# Altium schematic symbol library WCAP-ATLI.SchLib: 162 symbols (part 1 of 4)
Pins are listed as number, name and electrical type; pins without a type are passive.

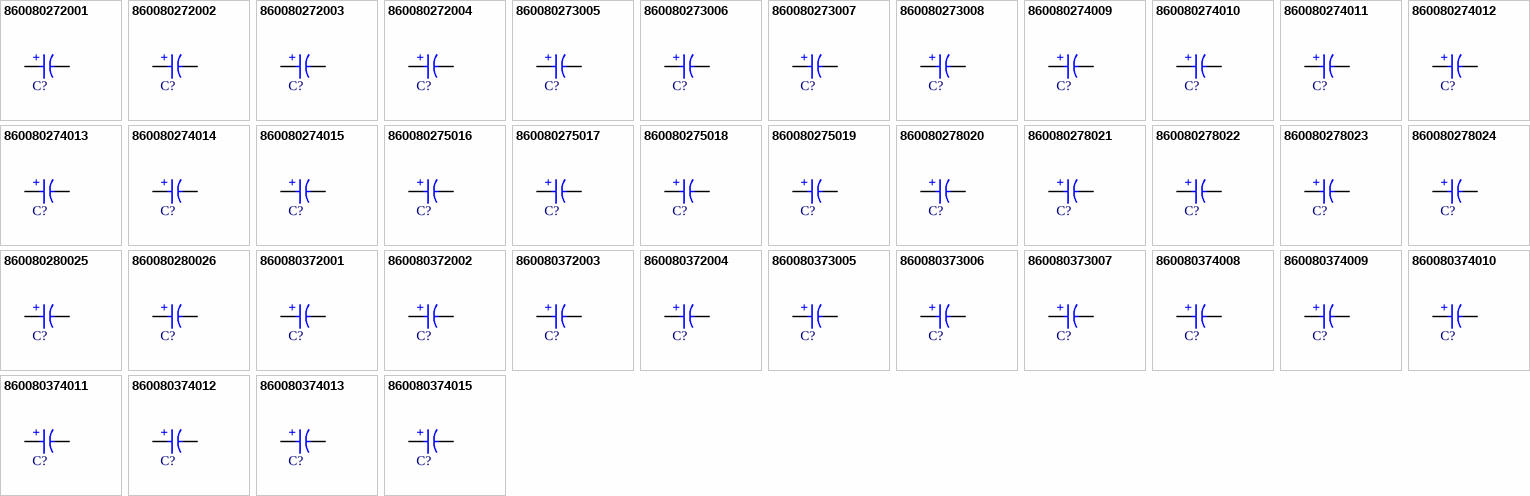
[diagram p0: symbols 860080272001 to 860080374015]

## 860080272001
designator C?, comment 68µF  (value not drawn)
WCAP-ATLI Aluminum Electrolytic Capacitor, Radial, THT, D5 x H11mm, 68µF, 10V; Manufacturer Part Number: 860080272001; Manufacturer: Wurth Elektronik; Capacitance Tolerance: +/-20%; Dissipation Factor: 14%; Endurance: 2000h; Leakage Current: 6.8µA; Ripple Current: 190mA; Technical Reference: ATEC110680M010DSPA3B000; Category: Aluminum Electrolytic Capacitors; Match Code: WCAP-ATLI; ComponentLink1Description: Website Link; ComponentLink1URL: https://www.we-online.com/redexpert/article/860080272001?ad; ComponentLink2Description: Datasheet Link; ComponentLink2URL: https://www.we-online.com/redexpert/spec/860080272001?ad; Mount: Through Hole; Operating Temperature Max: 105°C; Operating Temperature Min: -55°C; Packaging: Ammo Pack; Height: 11mm; Diameter: 5mm; Capacitance: 68µF; Rated Voltage (DC): 10V
footprint WCAP-ATLI_D5H11
simulation model 860080272001_68uF
pins: 1 P, 2 N
text: +

## 860080272002
designator C?, comment 82µF  (value not drawn)
WCAP-ATLI Aluminum Electrolytic Capacitor, Radial, THT, D5 x H11mm, 82µF, 10V; Manufacturer Part Number: 860080272002; Manufacturer: Wurth Elektronik; Capacitance Tolerance: +/-20%; Dissipation Factor: 14%; Endurance: 2000h; Leakage Current: 8.2µA; Ripple Current: 210mA; Technical Reference: ATEC110820M010DSPA3B000; Category: Aluminum Electrolytic Capacitors; Match Code: WCAP-ATLI; ComponentLink1Description: Website Link; ComponentLink1URL: https://www.we-online.com/redexpert/article/860080272002?ad; ComponentLink2Description: Datasheet Link; ComponentLink2URL: https://www.we-online.com/redexpert/spec/860080272002?ad; Mount: Through Hole; Operating Temperature Max: 105°C; Operating Temperature Min: -55°C; Packaging: Ammo Pack; Height: 11mm; Diameter: 5mm; Capacitance: 82µF; Rated Voltage (DC): 10V
footprint WCAP-ATLI_D5H11
simulation model 860080272002_82uF
pins: 1 P, 2 N
text: +

## 860080272003
designator C?, comment 100µF  (value not drawn)
WCAP-ATLI Aluminum Electrolytic Capacitor, Radial, THT, D5 x H11mm, 100µF, 10V; Manufacturer Part Number: 860080272003; Manufacturer: Wurth Elektronik; Capacitance Tolerance: +/-20%; Dissipation Factor: 14%; Endurance: 2000h; Leakage Current: 10µA; Ripple Current: 242mA; Technical Reference: ATEC110101M010DSPA3B000; Category: Aluminum Electrolytic Capacitors; Match Code: WCAP-ATLI; ComponentLink1Description: Website Link; ComponentLink1URL: https://www.we-online.com/redexpert/article/860080272003?ad; ComponentLink2Description: Datasheet Link; ComponentLink2URL: https://www.we-online.com/redexpert/spec/860080272003?ad; Mount: Through Hole; Operating Temperature Max: 105°C; Operating Temperature Min: -55°C; Packaging: Ammo Pack; Height: 11mm; Diameter: 5mm; Capacitance: 100µF; Rated Voltage (DC): 10V
footprint WCAP-ATLI_D5H11
simulation model 860080272003_100uF
pins: 1 P, 2 N
text: +

## 860080272004
designator C?, comment 120µF  (value not drawn)
WCAP-ATLI Aluminum Electrolytic Capacitor, Radial, THT, D5 x H11mm, 120µF, 10V; Manufacturer Part Number: 860080272004; Manufacturer: Wurth Elektronik; Capacitance Tolerance: +/-20%; Dissipation Factor: 14%; Endurance: 2000h; Leakage Current: 12µA; Ripple Current: 261mA; Technical Reference: ATEC110121M010DSPA3B000; Category: Aluminum Electrolytic Capacitors; Match Code: WCAP-ATLI; ComponentLink1Description: Website Link; ComponentLink1URL: https://www.we-online.com/redexpert/article/860080272004?ad; ComponentLink2Description: Datasheet Link; ComponentLink2URL: https://www.we-online.com/redexpert/spec/860080272004?ad; Mount: Through Hole; Operating Temperature Max: 105°C; Operating Temperature Min: -55°C; Packaging: Ammo Pack; Height: 11mm; Diameter: 5mm; Capacitance: 120µF; Rated Voltage (DC): 10V
footprint WCAP-ATLI_D5H11
simulation model 860080272004_120uF
pins: 1 P, 2 N
text: +

## 860080273005
designator C?, comment 150µF  (value not drawn)
WCAP-ATLI Aluminum Electrolytic Capacitor, Radial, THT, D6.3 x H11mm, 150µF, 10V; Manufacturer Part Number: 860080273005; Manufacturer: Wurth Elektronik; Capacitance Tolerance: +/-20%; Dissipation Factor: 14%; Endurance: 2000h; Leakage Current: 15µA; Ripple Current: 300mA; Technical Reference: ATED110151M010DSPA4B000; Category: Aluminum Electrolytic Capacitors; Match Code: WCAP-ATLI; ComponentLink1Description: Website Link; ComponentLink1URL: https://www.we-online.com/redexpert/article/860080273005?ad; ComponentLink2Description: Datasheet Link; ComponentLink2URL: https://www.we-online.com/redexpert/spec/860080273005?ad; Mount: Through Hole; Operating Temperature Max: 105°C; Operating Temperature Min: -55°C; Packaging: Ammo Pack; Height: 11mm; Diameter: 6.3mm; Capacitance: 150µF; Rated Voltage (DC): 10V
footprint WCAP-ATLI_D6.3H11
simulation model 860080273005_150uF
pins: 1 P, 2 N
text: +

## 860080273006
designator C?, comment 180µF  (value not drawn)
WCAP-ATLI Aluminum Electrolytic Capacitor, Radial, THT, D6.3 x H11mm, 180µF, 10V; Manufacturer Part Number: 860080273006; Manufacturer: Wurth Elektronik; Capacitance Tolerance: +/-20%; Dissipation Factor: 14%; Endurance: 2000h; Leakage Current: 18µA; Ripple Current: 350mA; Technical Reference: ATED110181M010DSPA4B000; Category: Aluminum Electrolytic Capacitors; Match Code: WCAP-ATLI; ComponentLink1Description: Website Link; ComponentLink1URL: https://www.we-online.com/redexpert/article/860080273006?ad; ComponentLink2Description: Datasheet Link; ComponentLink2URL: https://www.we-online.com/redexpert/spec/860080273006?ad; Mount: Through Hole; Operating Temperature Max: 105°C; Operating Temperature Min: -55°C; Packaging: Ammo Pack; Height: 11mm; Diameter: 6.3mm; Capacitance: 180µF; Rated Voltage (DC): 10V
footprint WCAP-ATLI_D6.3H11
simulation model 860080273006_180uF
pins: 1 P, 2 N
text: +

## 860080273007
designator C?, comment 220µF  (value not drawn)
WCAP-ATLI Aluminum Electrolytic Capacitor, Radial, THT, D6.3 x H11mm, 220µF, 10V; Manufacturer Part Number: 860080273007; Manufacturer: Wurth Elektronik; Capacitance Tolerance: +/-20%; Dissipation Factor: 14%; Endurance: 2000h; Leakage Current: 22µA; Ripple Current: 390mA; Technical Reference: ATED110221M010DSPA4B000; Category: Aluminum Electrolytic Capacitors; Match Code: WCAP-ATLI; ComponentLink1Description: Website Link; ComponentLink1URL: https://www.we-online.com/redexpert/article/860080273007?ad; ComponentLink2Description: Datasheet Link; ComponentLink2URL: https://www.we-online.com/redexpert/spec/860080273007?ad; Mount: Through Hole; Operating Temperature Max: 105°C; Operating Temperature Min: -55°C; Packaging: Ammo Pack; Height: 11mm; Diameter: 6.3mm; Capacitance: 220µF; Rated Voltage (DC): 10V
footprint WCAP-ATLI_D6.3H11
simulation model 860080273007_220uF
pins: 1 P, 2 N
text: +

## 860080273008
designator C?, comment 270µF  (value not drawn)
WCAP-ATLI Aluminum Electrolytic Capacitor, Radial, THT, D6.3 x H15mm, 270µF, 10V; Manufacturer Part Number: 860080273008; Manufacturer: Wurth Elektronik; Capacitance Tolerance: +/-20%; Dissipation Factor: 14%; Endurance: 2000h; Leakage Current: 27µA; Ripple Current: 460mA; Technical Reference: ATED150271M010DSPA4B000; Category: Aluminum Electrolytic Capacitors; Match Code: WCAP-ATLI; ComponentLink1Description: Website Link; ComponentLink1URL: https://www.we-online.com/redexpert/article/860080273008?ad; ComponentLink2Description: Datasheet Link; ComponentLink2URL: https://www.we-online.com/redexpert/spec/860080273008?ad; Mount: Through Hole; Operating Temperature Max: 105°C; Operating Temperature Min: -55°C; Packaging: Ammo Pack; Height: 15mm; Diameter: 6.3mm; Capacitance: 270µF; Rated Voltage (DC): 10V
footprint WCAP-ATLI_D6.3H15
simulation model 860080273008_270uF
pins: 1 P, 2 N
text: +

## 860080274009
designator C?, comment 330µF  (value not drawn)
WCAP-ATLI Aluminum Electrolytic Capacitor, Radial, THT, D8 x H11.5mm, 330µF, 10V; Manufacturer Part Number: 860080274009; Manufacturer: Wurth Elektronik; Capacitance Tolerance: +/-20%; Dissipation Factor: 14%; Endurance: 3000h; Leakage Current: 33µA; Ripple Current: 540mA; Technical Reference: ATEE115331M010DSPA7C000; Category: Aluminum Electrolytic Capacitors; Match Code: WCAP-ATLI; ComponentLink1Description: Website Link; ComponentLink1URL: https://www.we-online.com/redexpert/article/860080274009?ad; ComponentLink2Description: Datasheet Link; ComponentLink2URL: https://www.we-online.com/redexpert/spec/860080274009?ad; Mount: Through Hole; Operating Temperature Max: 105°C; Operating Temperature Min: -55°C; Packaging: Ammo Pack; Height: 11.5mm; Diameter: 8mm; Capacitance: 330µF; Rated Voltage (DC): 10V
footprint WCAP-ATLI_D8H11.5
simulation model 860080274009_330uF
pins: 1 P, 2 N
text: +

## 860080274010
designator C?, comment 390µF  (value not drawn)
WCAP-ATLI Aluminum Electrolytic Capacitor, Radial, THT, D8 x H11.5mm, 390µF, 10V; Manufacturer Part Number: 860080274010; Manufacturer: Wurth Elektronik; Capacitance Tolerance: +/-20%; Dissipation Factor: 14%; Endurance: 3000h; Leakage Current: 39µA; Ripple Current: 620mA; Technical Reference: ATEE115391M010DSPA7C000; Category: Aluminum Electrolytic Capacitors; Match Code: WCAP-ATLI; ComponentLink1Description: Website Link; ComponentLink1URL: https://www.we-online.com/redexpert/article/860080274010?ad; ComponentLink2Description: Datasheet Link; ComponentLink2URL: https://www.we-online.com/redexpert/spec/860080274010?ad; Mount: Through Hole; Operating Temperature Max: 105°C; Operating Temperature Min: -55°C; Packaging: Ammo Pack; Height: 11.5mm; Diameter: 8mm; Capacitance: 390µF; Rated Voltage (DC): 10V
footprint WCAP-ATLI_D8H11.5
simulation model 860080274010_390uF
pins: 1 P, 2 N
text: +

## 860080274011
designator C?, comment 470µF  (value not drawn)
WCAP-ATLI Aluminum Electrolytic Capacitor, Radial, THT, D8 x H11.5mm, 470µF, 10V; Manufacturer Part Number: 860080274011; Manufacturer: Wurth Elektronik; Capacitance Tolerance: +/-20%; Dissipation Factor: 14%; Endurance: 3000h; Leakage Current: 47µA; Ripple Current: 750mA; Technical Reference: ATEE115471M010DSPA7C000; Category: Aluminum Electrolytic Capacitors; Match Code: WCAP-ATLI; ComponentLink1Description: Website Link; ComponentLink1URL: https://www.we-online.com/redexpert/article/860080274011?ad; ComponentLink2Description: Datasheet Link; ComponentLink2URL: https://www.we-online.com/redexpert/spec/860080274011?ad; Mount: Through Hole; Operating Temperature Max: 105°C; Operating Temperature Min: -55°C; Packaging: Ammo Pack; Height: 11.5mm; Diameter: 8mm; Capacitance: 470µF; Rated Voltage (DC): 10V
footprint WCAP-ATLI_D8H11.5
simulation model 860080274011_470uF
pins: 1 P, 2 N
text: +

## 860080274012
designator C?, comment 560µF  (value not drawn)
WCAP-ATLI Aluminum Electrolytic Capacitor, Radial, THT, D8 x H16mm, 560µF, 10V; Manufacturer Part Number: 860080274012; Manufacturer: Wurth Elektronik; Capacitance Tolerance: +/-20%; Dissipation Factor: 14%; Endurance: 3000h; Leakage Current: 56µA; Ripple Current: 870mA; Technical Reference: ATEE160561M010DSPA7C000; Category: Aluminum Electrolytic Capacitors; Match Code: WCAP-ATLI; ComponentLink1Description: Website Link; ComponentLink1URL: https://www.we-online.com/redexpert/article/860080274012?ad; ComponentLink2Description: Datasheet Link; ComponentLink2URL: https://www.we-online.com/redexpert/spec/860080274012?ad; Mount: Through Hole; Operating Temperature Max: 105°C; Operating Temperature Min: -55°C; Packaging: Ammo Pack; Height: 16mm; Diameter: 8mm; Capacitance: 560µF; Rated Voltage (DC): 10V
footprint WCAP-ATLI_D8H16
simulation model 860080274012_560uF
pins: 1 P, 2 N
text: +

## 860080274013
designator C?, comment 680µF  (value not drawn)
WCAP-ATLI Aluminum Electrolytic Capacitor, Radial, THT, D8 x H20mm, 680µF, 10V; Manufacturer Part Number: 860080274013; Manufacturer: Wurth Elektronik; Capacitance Tolerance: +/-20%; Dissipation Factor: 14%; Endurance: 3000h; Leakage Current: 68µA; Ripple Current: 1010mA; Technical Reference: ATEE200681M010DSPA7C000; Category: Aluminum Electrolytic Capacitors; Match Code: WCAP-ATLI; ComponentLink1Description: Website Link; ComponentLink1URL: https://www.we-online.com/redexpert/article/860080274013?ad; ComponentLink2Description: Datasheet Link; ComponentLink2URL: https://www.we-online.com/redexpert/spec/860080274013?ad; Mount: Through Hole; Operating Temperature Max: 105°C; Operating Temperature Min: -55°C; Packaging: Ammo Pack; Height: 20mm; Diameter: 8mm; Capacitance: 680µF; Rated Voltage (DC): 10V
footprint WCAP-ATLI_D8H20
simulation model 860080274013_680uF
pins: 1 P, 2 N
text: +

## 860080274014
designator C?, comment 820µF  (value not drawn)
WCAP-ATLI Aluminum Electrolytic Capacitor, Radial, THT, D8 x H20mm, 820µF, 10V; Manufacturer Part Number: 860080274014; Manufacturer: Wurth Elektronik; Capacitance Tolerance: +/-20%; Dissipation Factor: 14%; Endurance: 3000h; Leakage Current: 82µA; Ripple Current: 1030mA; Technical Reference: ATEE200821M010DSPA7C000; Category: Aluminum Electrolytic Capacitors; Match Code: WCAP-ATLI; ComponentLink1Description: Website Link; ComponentLink1URL: https://www.we-online.com/redexpert/article/860080274014?ad; ComponentLink2Description: Datasheet Link; ComponentLink2URL: https://www.we-online.com/redexpert/spec/860080274014?ad; Mount: Through Hole; Operating Temperature Max: 105°C; Operating Temperature Min: -55°C; Packaging: Ammo Pack; Height: 20mm; Diameter: 8mm; Capacitance: 820µF; Rated Voltage (DC): 10V
footprint WCAP-ATLI_D8H20
simulation model 860080274014_820uF
pins: 1 P, 2 N
text: +

## 860080274015
designator C?, comment 1000µF  (value not drawn)
WCAP-ATLI Aluminum Electrolytic Capacitor, Radial, THT, D8 x H20mm, 1000µF, 10V; Manufacturer Part Number: 860080274015; Manufacturer: Wurth Elektronik; Capacitance Tolerance: +/-20%; Dissipation Factor: 14%; Endurance: 3000h; Leakage Current: 100µA; Ripple Current: 1220mA; Technical Reference: ATEE200102M010DSPA7C000; Category: Aluminum Electrolytic Capacitors; Match Code: WCAP-ATLI; ComponentLink1Description: Website Link; ComponentLink1URL: https://www.we-online.com/redexpert/article/860080274015?ad; ComponentLink2Description: Datasheet Link; ComponentLink2URL: https://www.we-online.com/redexpert/spec/860080274015?ad; Mount: Through Hole; Operating Temperature Max: 105°C; Operating Temperature Min: -55°C; Packaging: Ammo Pack; Height: 20mm; Diameter: 8mm; Capacitance: 1000µF; Rated Voltage (DC): 10V
footprint WCAP-ATLI_D8H20
simulation model 860080274015_1mF
pins: 1 P, 2 N
text: +

## 860080275016
designator C?, comment 1000µF  (value not drawn)
WCAP-ATLI Aluminum Electrolytic Capacitor, Radial, THT, D10 x H16mm, 1000µF, 10V; Manufacturer Part Number: 860080275016; Manufacturer: Wurth Elektronik; Capacitance Tolerance: +/-20%; Dissipation Factor: 14%; Endurance: 5000h; Leakage Current: 100µA; Ripple Current: 1400mA; Technical Reference: ATEF160102M010DSPAAE000; Category: Aluminum Electrolytic Capacitors; Match Code: WCAP-ATLI; ComponentLink1Description: Website Link; ComponentLink1URL: https://www.we-online.com/redexpert/article/860080275016?ad; ComponentLink2Description: Datasheet Link; ComponentLink2URL: https://www.we-online.com/redexpert/spec/860080275016?ad; Mount: Through Hole; Operating Temperature Max: 105°C; Operating Temperature Min: -55°C; Packaging: Ammo Pack; Height: 16mm; Diameter: 10mm; Capacitance: 1000µF; Rated Voltage (DC): 10V
footprint WCAP-ATLI_D10H16
simulation model 860080275016_1mF
pins: 1 P, 2 N
text: +

## 860080275017
designator C?, comment 1200µF  (value not drawn)
WCAP-ATLI Aluminum Electrolytic Capacitor, Radial, THT, D10 x H20mm, 1200µF, 10V; Manufacturer Part Number: 860080275017; Manufacturer: Wurth Elektronik; Capacitance Tolerance: +/-20%; Dissipation Factor: 14%; Endurance: 5000h; Leakage Current: 120µA; Ripple Current: 1560mA; Technical Reference: ATEF200122M010DSPAAE000; Category: Aluminum Electrolytic Capacitors; Match Code: WCAP-ATLI; ComponentLink1Description: Website Link; ComponentLink1URL: https://www.we-online.com/redexpert/article/860080275017?ad; ComponentLink2Description: Datasheet Link; ComponentLink2URL: https://www.we-online.com/redexpert/spec/860080275017?ad; Mount: Through Hole; Operating Temperature Max: 105°C; Operating Temperature Min: -55°C; Packaging: Ammo Pack; Height: 20mm; Diameter: 10mm; Capacitance: 1200µF; Rated Voltage (DC): 10V
footprint WCAP-ATLI_D10H20
simulation model 860080275017_1.2mF
pins: 1 P, 2 N
text: +

## 860080275018
designator C?, comment 1500µF  (value not drawn)
WCAP-ATLI Aluminum Electrolytic Capacitor, Radial, THT, D10 x H20mm, 1500µF, 10V; Manufacturer Part Number: 860080275018; Manufacturer: Wurth Elektronik; Capacitance Tolerance: +/-20%; Dissipation Factor: 14%; Endurance: 5000h; Leakage Current: 150µA; Ripple Current: 1670mA; Technical Reference: ATEF200152M010DSPAAE000; Category: Aluminum Electrolytic Capacitors; Match Code: WCAP-ATLI; ComponentLink1Description: Website Link; ComponentLink1URL: https://www.we-online.com/redexpert/article/860080275018?ad; ComponentLink2Description: Datasheet Link; ComponentLink2URL: https://www.we-online.com/redexpert/spec/860080275018?ad; Mount: Through Hole; Operating Temperature Max: 105°C; Operating Temperature Min: -55°C; Packaging: Ammo Pack; Height: 20mm; Diameter: 10mm; Capacitance: 1500µF; Rated Voltage (DC): 10V
footprint WCAP-ATLI_D10H20
simulation model 860080275018_1.5mF
pins: 1 P, 2 N
text: +

## 860080275019
designator C?, comment 1800µF  (value not drawn)
WCAP-ATLI Aluminum Electrolytic Capacitor, Radial, THT, D10 x H25mm, 1800µF, 10V; Manufacturer Part Number: 860080275019; Manufacturer: Wurth Elektronik; Capacitance Tolerance: +/-20%; Dissipation Factor: 14%; Endurance: 5000h; Leakage Current: 180µA; Ripple Current: 2000mA; Technical Reference: ATEF250182M010DSPAAE000; Category: Aluminum Electrolytic Capacitors; Match Code: WCAP-ATLI; ComponentLink1Description: Website Link; ComponentLink1URL: https://www.we-online.com/redexpert/article/860080275019?ad; ComponentLink2Description: Datasheet Link; ComponentLink2URL: https://www.we-online.com/redexpert/spec/860080275019?ad; Mount: Through Hole; Operating Temperature Max: 105°C; Operating Temperature Min: -55°C; Packaging: Ammo Pack; Height: 25mm; Diameter: 10mm; Capacitance: 1800µF; Rated Voltage (DC): 10V
footprint WCAP-ATLI_D10H25
simulation model 860080275019_1.8mF
pins: 1 P, 2 N
text: +

## 860080278020
designator C?, comment 2200µF  (value not drawn)
WCAP-ATLI Aluminum Electrolytic Capacitor, Radial, THT, D13 x H20mm, 2200µF, 10V; Manufacturer Part Number: 860080278020; Manufacturer: Wurth Elektronik; Capacitance Tolerance: +/-20%; Dissipation Factor: 14%; Endurance: 5000h; Leakage Current: 220µA; Ripple Current: 2370mA; Technical Reference: ATEI200222M010DSPACE000; Category: Aluminum Electrolytic Capacitors; Match Code: WCAP-ATLI; ComponentLink1Description: Website Link; ComponentLink1URL: https://www.we-online.com/redexpert/article/860080278020?ad; ComponentLink2Description: Datasheet Link; ComponentLink2URL: https://www.we-online.com/redexpert/spec/860080278020?ad; Mount: Through Hole; Operating Temperature Max: 105°C; Operating Temperature Min: -55°C; Packaging: Ammo Pack; Height: 20mm; Diameter: 13mm; Capacitance: 2200µF; Rated Voltage (DC): 10V
footprint WCAP-ATLI_D13H20
simulation model 860080278020_2.2mF
pins: 1 P, 2 N
text: +

## 860080278021
designator C?, comment 2700µF  (value not drawn)
WCAP-ATLI Aluminum Electrolytic Capacitor, Radial, THT, D13 x H20mm, 2700µF, 10V; Manufacturer Part Number: 860080278021; Manufacturer: Wurth Elektronik; Capacitance Tolerance: +/-20%; Dissipation Factor: 14%; Endurance: 5000h; Leakage Current: 270µA; Ripple Current: 2400mA; Technical Reference: ATEI200272M010DSPACE000; Category: Aluminum Electrolytic Capacitors; Match Code: WCAP-ATLI; ComponentLink1Description: Website Link; ComponentLink1URL: https://www.we-online.com/redexpert/article/860080278021?ad; ComponentLink2Description: Datasheet Link; ComponentLink2URL: https://www.we-online.com/redexpert/spec/860080278021?ad; Mount: Through Hole; Operating Temperature Max: 105°C; Operating Temperature Min: -55°C; Packaging: Ammo Pack; Height: 20mm; Diameter: 13mm; Capacitance: 2700µF; Rated Voltage (DC): 10V
footprint WCAP-ATLI_D13H20
simulation model 860080278021_2.7mF
pins: 1 P, 2 N
text: +

## 860080278022
designator C?, comment 3300µF  (value not drawn)
WCAP-ATLI Aluminum Electrolytic Capacitor, Radial, THT, D13 x H25mm, 3300µF, 10V; Manufacturer Part Number: 860080278022; Manufacturer: Wurth Elektronik; Capacitance Tolerance: +/-20%; Dissipation Factor: 14%; Endurance: 5000h; Leakage Current: 330µA; Ripple Current: 2720mA; Technical Reference: ATEI250332M010DSPACE000; Category: Aluminum Electrolytic Capacitors; Match Code: WCAP-ATLI; ComponentLink1Description: Website Link; ComponentLink1URL: https://www.we-online.com/redexpert/article/860080278022?ad; ComponentLink2Description: Datasheet Link; ComponentLink2URL: https://www.we-online.com/redexpert/spec/860080278022?ad; Mount: Through Hole; Operating Temperature Max: 105°C; Operating Temperature Min: -55°C; Packaging: Ammo Pack; Height: 25mm; Diameter: 13mm; Capacitance: 3300µF; Rated Voltage (DC): 10V
footprint WCAP-ATLI_D13H25
simulation model 860080278022_3.3mF
pins: 1 P, 2 N
text: +

## 860080278023
designator C?, comment 3900µF  (value not drawn)
WCAP-ATLI Aluminum Electrolytic Capacitor, Radial, THT, D13 x H30mm, 3900µF, 10V; Manufacturer Part Number: 860080278023; Manufacturer: Wurth Elektronik; Capacitance Tolerance: +/-20%; Dissipation Factor: 14%; Endurance: 5000h; Leakage Current: 390µA; Ripple Current: 3000mA; Technical Reference: ATEI300392M010DSPACE000; Category: Aluminum Electrolytic Capacitors; Match Code: WCAP-ATLI; ComponentLink1Description: Website Link; ComponentLink1URL: https://www.we-online.com/redexpert/article/860080278023?ad; ComponentLink2Description: Datasheet Link; ComponentLink2URL: https://www.we-online.com/redexpert/spec/860080278023?ad; Mount: Through Hole; Operating Temperature Max: 105°C; Operating Temperature Min: -55°C; Packaging: Ammo Pack; Height: 30mm; Diameter: 13mm; Capacitance: 3900µF; Rated Voltage (DC): 10V
footprint WCAP-ATLI_D13H30
simulation model 860080278023_3.9mF
pins: 1 P, 2 N
text: +

## 860080278024
designator C?, comment 4700µF  (value not drawn)
WCAP-ATLI Aluminum Electrolytic Capacitor, Radial, THT, D13 x H35mm, 4700µF, 10V; Manufacturer Part Number: 860080278024; Manufacturer: Wurth Elektronik; Capacitance Tolerance: +/-20%; Dissipation Factor: 14%; Endurance: 5000h; Leakage Current: 470µA; Ripple Current: 3450mA; Technical Reference: ATEI350472M010DSPABE000; Category: Aluminum Electrolytic Capacitors; Match Code: WCAP-ATLI; ComponentLink1Description: Website Link; ComponentLink1URL: https://www.we-online.com/redexpert/article/860080278024?ad; ComponentLink2Description: Datasheet Link; ComponentLink2URL: https://www.we-online.com/redexpert/spec/860080278024?ad; Mount: Through Hole; Operating Temperature Max: 105°C; Operating Temperature Min: -55°C; Packaging: Ammo Pack; Height: 35mm; Diameter: 13mm; Capacitance: 4700µF; Rated Voltage (DC): 10V
footprint WCAP-ATLI_D13H35
simulation model 860080278024_4.7mF
pins: 1 P, 2 N
text: +

## 860080280025
designator C?, comment 5600µF  (value not drawn)
WCAP-ATLI Aluminum Electrolytic Capacitor, Radial, THT, D16 x H31.5mm, 5600µF, 10V; Manufacturer Part Number: 860080280025; Manufacturer: Wurth Elektronik; Capacitance Tolerance: +/-20%; Dissipation Factor: 14%; Endurance: 5000h; Leakage Current: 560µA; Ripple Current: 3460mA; Technical Reference: ATEK315562M010DSPADE000; Category: Aluminum Electrolytic Capacitors; Match Code: WCAP-ATLI; ComponentLink1Description: Website Link; ComponentLink1URL: https://www.we-online.com/redexpert/article/860080280025?ad; ComponentLink2Description: Datasheet Link; ComponentLink2URL: https://www.we-online.com/redexpert/spec/860080280025?ad; Mount: Through Hole; Operating Temperature Max: 105°C; Operating Temperature Min: -55°C; Packaging: Ammo Pack; Height: 31.5mm; Diameter: 16mm; Capacitance: 5600µF; Rated Voltage (DC): 10V
footprint WCAP-ATLI_D16H31.5
simulation model 860080280025_5.6mF
pins: 1 P, 2 N
text: +

## 860080280026
designator C?, comment 6800µF  (value not drawn)
WCAP-ATLI Aluminum Electrolytic Capacitor, Radial, THT, D16 x H31.5mm, 6800µF, 10V; Manufacturer Part Number: 860080280026; Manufacturer: Wurth Elektronik; Capacitance Tolerance: +/-20%; Dissipation Factor: 14%; Endurance: 5000h; Leakage Current: 680µA; Ripple Current: 3630mA; Technical Reference: ATEK315682M010DSPADE000; Category: Aluminum Electrolytic Capacitors; Match Code: WCAP-ATLI; ComponentLink1Description: Website Link; ComponentLink1URL: https://www.we-online.com/redexpert/article/860080280026?ad; ComponentLink2Description: Datasheet Link; ComponentLink2URL: https://www.we-online.com/redexpert/spec/860080280026?ad; Mount: Through Hole; Operating Temperature Max: 105°C; Operating Temperature Min: -55°C; Packaging: Ammo Pack; Height: 31.5mm; Diameter: 16mm; Capacitance: 6800µF; Rated Voltage (DC): 10V
footprint WCAP-ATLI_D16H31.5
simulation model 860080280026_6.8mF
pins: 1 P, 2 N
text: +

## 860080372001
designator C?, comment 47µF  (value not drawn)
WCAP-ATLI Aluminum Electrolytic Capacitor, Radial, THT, D5 x H11mm, 47µF, 16V; Manufacturer Part Number: 860080372001; Manufacturer: Wurth Elektronik; Capacitance Tolerance: +/-20%; Dissipation Factor: 12%; Endurance: 2000h; Leakage Current: 7.52µA; Ripple Current: 200mA; Technical Reference: ATEC110470M016DSPA3B000; Category: Aluminum Electrolytic Capacitors; Match Code: WCAP-ATLI; ComponentLink1Description: Website Link; ComponentLink1URL: https://www.we-online.com/redexpert/article/860080372001?ad; ComponentLink2Description: Datasheet Link; ComponentLink2URL: https://www.we-online.com/redexpert/spec/860080372001?ad; Mount: Through Hole; Operating Temperature Max: 105°C; Operating Temperature Min: -55°C; Packaging: Ammo Pack; Height: 11mm; Diameter: 5mm; Capacitance: 47µF; Rated Voltage (DC): 16V
footprint WCAP-ATLI_D5H11
simulation model 860080372001_47uF
pins: 1 P, 2 N
text: +

## 860080372002
designator C?, comment 56µF  (value not drawn)
WCAP-ATLI Aluminum Electrolytic Capacitor, Radial, THT, D5 x H11mm, 56µF, 16V; Manufacturer Part Number: 860080372002; Manufacturer: Wurth Elektronik; Capacitance Tolerance: +/-20%; Dissipation Factor: 12%; Endurance: 2000h; Leakage Current: 8.96µA; Ripple Current: 220mA; Technical Reference: ATEC110560M016DSPA3B000; Category: Aluminum Electrolytic Capacitors; Match Code: WCAP-ATLI; ComponentLink1Description: Website Link; ComponentLink1URL: https://www.we-online.com/redexpert/article/860080372002?ad; ComponentLink2Description: Datasheet Link; ComponentLink2URL: https://www.we-online.com/redexpert/spec/860080372002?ad; Mount: Through Hole; Operating Temperature Max: 105°C; Operating Temperature Min: -55°C; Packaging: Ammo Pack; Height: 11mm; Diameter: 5mm; Capacitance: 56µF; Rated Voltage (DC): 16V
footprint WCAP-ATLI_D5H11
simulation model 860080372002_56uF
pins: 1 P, 2 N
text: +

## 860080372003
designator C?, comment 68µF  (value not drawn)
WCAP-ATLI Aluminum Electrolytic Capacitor, Radial, THT, D5 x H11mm, 68µF, 16V; Manufacturer Part Number: 860080372003; Manufacturer: Wurth Elektronik; Capacitance Tolerance: +/-20%; Dissipation Factor: 12%; Endurance: 2000h; Leakage Current: 10.88µA; Ripple Current: 230mA; Technical Reference: ATEC110680M016DSPA3B000; Category: Aluminum Electrolytic Capacitors; Match Code: WCAP-ATLI; ComponentLink1Description: Website Link; ComponentLink1URL: https://www.we-online.com/redexpert/article/860080372003?ad; ComponentLink2Description: Datasheet Link; ComponentLink2URL: https://www.we-online.com/redexpert/spec/860080372003?ad; Mount: Through Hole; Operating Temperature Max: 105°C; Operating Temperature Min: -55°C; Packaging: Ammo Pack; Height: 11mm; Diameter: 5mm; Capacitance: 68µF; Rated Voltage (DC): 16V
footprint WCAP-ATLI_D5H11
simulation model 860080372003_68uF
pins: 1 P, 2 N
text: +

## 860080372004
designator C?, comment 82µF  (value not drawn)
WCAP-ATLI Aluminum Electrolytic Capacitor, Radial, THT, D5 x H11mm, 82µF, 16V; Manufacturer Part Number: 860080372004; Manufacturer: Wurth Elektronik; Capacitance Tolerance: +/-20%; Dissipation Factor: 12%; Endurance: 2000h; Leakage Current: 13.12µA; Ripple Current: 260mA; Technical Reference: ATEC110820M016DSPA3B000; Category: Aluminum Electrolytic Capacitors; Match Code: WCAP-ATLI; ComponentLink1Description: Website Link; ComponentLink1URL: https://www.we-online.com/redexpert/article/860080372004?ad; ComponentLink2Description: Datasheet Link; ComponentLink2URL: https://www.we-online.com/redexpert/spec/860080372004?ad; Mount: Through Hole; Operating Temperature Max: 105°C; Operating Temperature Min: -55°C; Packaging: Ammo Pack; Height: 11mm; Diameter: 5mm; Capacitance: 82µF; Rated Voltage (DC): 16V
footprint WCAP-ATLI_D5H11
simulation model 860080372004_82uF
pins: 1 P, 2 N
text: +

## 860080373005
designator C?, comment 100µF  (value not drawn)
WCAP-ATLI Aluminum Electrolytic Capacitor, Radial, THT, D6.3 x H11mm, 100µF, 16V; Manufacturer Part Number: 860080373005; Manufacturer: Wurth Elektronik; Capacitance Tolerance: +/-20%; Dissipation Factor: 12%; Endurance: 2000h; Leakage Current: 16µA; Ripple Current: 360mA; Technical Reference: ATED110101M016DSPA4B000; Category: Aluminum Electrolytic Capacitors; Match Code: WCAP-ATLI; ComponentLink1Description: Website Link; ComponentLink1URL: https://www.we-online.com/redexpert/article/860080373005?ad; ComponentLink2Description: Datasheet Link; ComponentLink2URL: https://www.we-online.com/redexpert/spec/860080373005?ad; Mount: Through Hole; Operating Temperature Max: 105°C; Operating Temperature Min: -55°C; Packaging: Ammo Pack; Height: 11mm; Diameter: 6.3mm; Capacitance: 100µF; Rated Voltage (DC): 16V
footprint WCAP-ATLI_D6.3H11
simulation model 860080373005_100uF
pins: 1 P, 2 N
text: +

## 860080373006
designator C?, comment 120µF  (value not drawn)
WCAP-ATLI Aluminum Electrolytic Capacitor, Radial, THT, D6.3 x H11mm, 120µF, 16V; Manufacturer Part Number: 860080373006; Manufacturer: Wurth Elektronik; Capacitance Tolerance: +/-20%; Dissipation Factor: 12%; Endurance: 2000h; Leakage Current: 19.2µA; Ripple Current: 365mA; Technical Reference: ATED110121M016DSPA4B000; Category: Aluminum Electrolytic Capacitors; Match Code: WCAP-ATLI; ComponentLink1Description: Website Link; ComponentLink1URL: https://www.we-online.com/redexpert/article/860080373006?ad; ComponentLink2Description: Datasheet Link; ComponentLink2URL: https://www.we-online.com/redexpert/spec/860080373006?ad; Mount: Through Hole; Operating Temperature Max: 105°C; Operating Temperature Min: -55°C; Packaging: Ammo Pack; Height: 11mm; Diameter: 6.3mm; Capacitance: 120µF; Rated Voltage (DC): 16V
footprint WCAP-ATLI_D6.3H11
simulation model 860080373006_120uF
pins: 1 P, 2 N
text: +

## 860080373007
designator C?, comment 150µF  (value not drawn)
WCAP-ATLI Aluminum Electrolytic Capacitor, Radial, THT, D6.3 x H11mm, 150µF, 16V; Manufacturer Part Number: 860080373007; Manufacturer: Wurth Elektronik; Capacitance Tolerance: +/-20%; Dissipation Factor: 12%; Endurance: 2000h; Leakage Current: 24µA; Ripple Current: 385mA; Technical Reference: ATED110151M016DSPA4B000; Category: Aluminum Electrolytic Capacitors; Match Code: WCAP-ATLI; ComponentLink1Description: Website Link; ComponentLink1URL: https://www.we-online.com/redexpert/article/860080373007?ad; ComponentLink2Description: Datasheet Link; ComponentLink2URL: https://www.we-online.com/redexpert/spec/860080373007?ad; Mount: Through Hole; Operating Temperature Max: 105°C; Operating Temperature Min: -55°C; Packaging: Ammo Pack; Height: 11mm; Diameter: 6.3mm; Capacitance: 150µF; Rated Voltage (DC): 16V
footprint WCAP-ATLI_D6.3H11
simulation model 860080373007_150uF
pins: 1 P, 2 N
text: +

## 860080374008
designator C?, comment 180µF  (value not drawn)
WCAP-ATLI Aluminum Electrolytic Capacitor, Radial, THT, D8 x H11.5mm, 180µF, 16V; Manufacturer Part Number: 860080374008; Manufacturer: Wurth Elektronik; Capacitance Tolerance: +/-20%; Dissipation Factor: 12%; Endurance: 3000h; Leakage Current: 28.8µA; Ripple Current: 520mA; Technical Reference: ATEE115181M016DSPA7C000; Category: Aluminum Electrolytic Capacitors; Match Code: WCAP-ATLI; ComponentLink1Description: Website Link; ComponentLink1URL: https://www.we-online.com/redexpert/article/860080374008?ad; ComponentLink2Description: Datasheet Link; ComponentLink2URL: https://www.we-online.com/redexpert/spec/860080374008?ad; Mount: Through Hole; Operating Temperature Max: 105°C; Operating Temperature Min: -55°C; Packaging: Ammo Pack; Height: 11.5mm; Diameter: 8mm; Capacitance: 180µF; Rated Voltage (DC): 16V
footprint WCAP-ATLI_D8H11.5
simulation model 860080374008_180uF
pins: 1 P, 2 N
text: +

## 860080374009
designator C?, comment 220µF  (value not drawn)
WCAP-ATLI Aluminum Electrolytic Capacitor, Radial, THT, D8 x H11.5mm, 220µF, 16V; Manufacturer Part Number: 860080374009; Manufacturer: Wurth Elektronik; Capacitance Tolerance: +/-20%; Dissipation Factor: 12%; Endurance: 3000h; Leakage Current: 35.2µA; Ripple Current: 575mA; Technical Reference: ATEE115221M016DSPA7C000; Category: Aluminum Electrolytic Capacitors; Match Code: WCAP-ATLI; ComponentLink1Description: Website Link; ComponentLink1URL: https://www.we-online.com/redexpert/article/860080374009?ad; ComponentLink2Description: Datasheet Link; ComponentLink2URL: https://www.we-online.com/redexpert/spec/860080374009?ad; Mount: Through Hole; Operating Temperature Max: 105°C; Operating Temperature Min: -55°C; Packaging: Ammo Pack; Height: 11.5mm; Diameter: 8mm; Capacitance: 220µF; Rated Voltage (DC): 16V
footprint WCAP-ATLI_D8H11.5
simulation model 860080374009_220uF
pins: 1 P, 2 N
text: +

## 860080374010
designator C?, comment 270µF  (value not drawn)
WCAP-ATLI Aluminum Electrolytic Capacitor, Radial, THT, D8 x H11.5mm, 270µF, 16V; Manufacturer Part Number: 860080374010; Manufacturer: Wurth Elektronik; Capacitance Tolerance: +/-20%; Dissipation Factor: 12%; Endurance: 3000h; Leakage Current: 43.2µA; Ripple Current: 600mA; Technical Reference: ATEE115271M016DSPA7C000; Category: Aluminum Electrolytic Capacitors; Match Code: WCAP-ATLI; ComponentLink1Description: Website Link; ComponentLink1URL: https://www.we-online.com/redexpert/article/860080374010?ad; ComponentLink2Description: Datasheet Link; ComponentLink2URL: https://www.we-online.com/redexpert/spec/860080374010?ad; Mount: Through Hole; Operating Temperature Max: 105°C; Operating Temperature Min: -55°C; Packaging: Ammo Pack; Height: 11.5mm; Diameter: 8mm; Capacitance: 270µF; Rated Voltage (DC): 16V
footprint WCAP-ATLI_D8H11.5
simulation model 860080374010_270uF
pins: 1 P, 2 N
text: +

## 860080374011
designator C?, comment 330µF  (value not drawn)
WCAP-ATLI Aluminum Electrolytic Capacitor, Radial, THT, D8 x H11.5mm, 330µF, 16V; Manufacturer Part Number: 860080374011; Manufacturer: Wurth Elektronik; Capacitance Tolerance: +/-20%; Dissipation Factor: 12%; Endurance: 3000h; Leakage Current: 52.8µA; Ripple Current: 740mA; Technical Reference: ATEE115331M016DSPA7C000; Category: Aluminum Electrolytic Capacitors; Match Code: WCAP-ATLI; ComponentLink1Description: Website Link; ComponentLink1URL: https://www.we-online.com/redexpert/article/860080374011?ad; ComponentLink2Description: Datasheet Link; ComponentLink2URL: https://www.we-online.com/redexpert/spec/860080374011?ad; Mount: Through Hole; Operating Temperature Max: 105°C; Operating Temperature Min: -55°C; Packaging: Ammo Pack; Height: 11.5mm; Diameter: 8mm; Capacitance: 330µF; Rated Voltage (DC): 16V
footprint WCAP-ATLI_D8H11.5
simulation model 860080374011_330uF
pins: 1 P, 2 N
text: +

## 860080374012
designator C?, comment 390µF  (value not drawn)
WCAP-ATLI Aluminum Electrolytic Capacitor, Radial, THT, D8 x H16mm, 390µF, 16V; Manufacturer Part Number: 860080374012; Manufacturer: Wurth Elektronik; Capacitance Tolerance: +/-20%; Dissipation Factor: 12%; Endurance: 3000h; Leakage Current: 62.4µA; Ripple Current: 790mA; Technical Reference: ATEE160391M016DSPA7C000; Category: Aluminum Electrolytic Capacitors; Match Code: WCAP-ATLI; ComponentLink1Description: Website Link; ComponentLink1URL: https://www.we-online.com/redexpert/article/860080374012?ad; ComponentLink2Description: Datasheet Link; ComponentLink2URL: https://www.we-online.com/redexpert/spec/860080374012?ad; Mount: Through Hole; Operating Temperature Max: 105°C; Operating Temperature Min: -55°C; Packaging: Ammo Pack; Height: 16mm; Diameter: 8mm; Capacitance: 390µF; Rated Voltage (DC): 16V
footprint WCAP-ATLI_D8H16
simulation model 860080374012_390uF
pins: 1 P, 2 N
text: +

## 860080374013
designator C?, comment 470µF  (value not drawn)
WCAP-ATLI Aluminum Electrolytic Capacitor, Radial, THT, D8 x H16mm, 470µF, 16V; Manufacturer Part Number: 860080374013; Manufacturer: Wurth Elektronik; Capacitance Tolerance: +/-20%; Dissipation Factor: 12%; Endurance: 3000h; Leakage Current: 75.2µA; Ripple Current: 990mA; Technical Reference: ATEE160471M016DSPA7C000; Category: Aluminum Electrolytic Capacitors; Match Code: WCAP-ATLI; ComponentLink1Description: Website Link; ComponentLink1URL: https://www.we-online.com/redexpert/article/860080374013?ad; ComponentLink2Description: Datasheet Link; ComponentLink2URL: https://www.we-online.com/redexpert/spec/860080374013?ad; Mount: Through Hole; Operating Temperature Max: 105°C; Operating Temperature Min: -55°C; Packaging: Ammo Pack; Height: 16mm; Diameter: 8mm; Capacitance: 470µF; Rated Voltage (DC): 16V
footprint WCAP-ATLI_D8H16
simulation model 860080374013_470uF
pins: 1 P, 2 N
text: +

## 860080374015
designator C?, comment 560µF  (value not drawn)
WCAP-ATLI Aluminum Electrolytic Capacitor, Radial, THT, D8 x H20mm, 560µF, 16V; Manufacturer Part Number: 860080374015; Manufacturer: Wurth Elektronik; Capacitance Tolerance: +/-20%; Dissipation Factor: 12%; Endurance: 3000h; Leakage Current: 89.6µA; Ripple Current: 1070mA; Technical Reference: ATEE200561M016DSPA7C000; Category: Aluminum Electrolytic Capacitors; Match Code: WCAP-ATLI; ComponentLink1Description: Website Link; ComponentLink1URL: https://www.we-online.com/redexpert/article/860080374015?ad; ComponentLink2Description: Datasheet Link; ComponentLink2URL: https://www.we-online.com/redexpert/spec/860080374015?ad; Mount: Through Hole; Operating Temperature Max: 105°C; Operating Temperature Min: -55°C; Packaging: Ammo Pack; Height: 20mm; Diameter: 8mm; Capacitance: 560µF; Rated Voltage (DC): 16V
footprint WCAP-ATLI_D8H20
simulation model 860080374015_560uF
pins: 1 P, 2 N
text: +

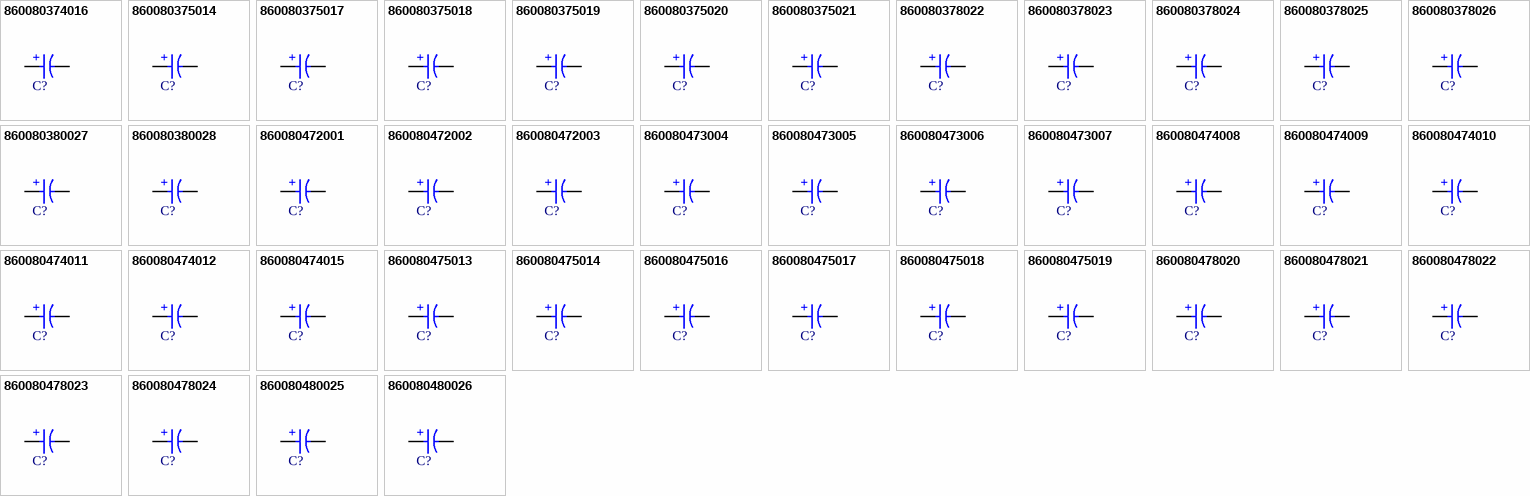
[diagram p1: symbols 860080374016 to 860080480026]

## 860080374016
designator C?, comment 680µF  (value not drawn)
WCAP-ATLI Aluminum Electrolytic Capacitor, Radial, THT, D8 x H20mm, 680µF, 16V; Manufacturer Part Number: 860080374016; Manufacturer: Wurth Elektronik; Capacitance Tolerance: +/-20%; Dissipation Factor: 12%; Endurance: 3000h; Leakage Current: 108.8µA; Ripple Current: 1120mA; Technical Reference: ATEE200681M016DSPA7C000; Category: Aluminum Electrolytic Capacitors; Match Code: WCAP-ATLI; ComponentLink1Description: Website Link; ComponentLink1URL: https://www.we-online.com/redexpert/article/860080374016?ad; ComponentLink2Description: Datasheet Link; ComponentLink2URL: https://www.we-online.com/redexpert/spec/860080374016?ad; Mount: Through Hole; Operating Temperature Max: 105°C; Operating Temperature Min: -55°C; Packaging: Ammo Pack; Height: 20mm; Diameter: 8mm; Capacitance: 680µF; Rated Voltage (DC): 16V
footprint WCAP-ATLI_D8H20
simulation model 860080374016_680uF
pins: 1 P, 2 N
text: +

## 860080375014
designator C?, comment 470µF  (value not drawn)
WCAP-ATLI Aluminum Electrolytic Capacitor, Radial, THT, D10 x H12.5mm, 470µF, 16V; Manufacturer Part Number: 860080375014; Manufacturer: Wurth Elektronik; Capacitance Tolerance: +/-20%; Dissipation Factor: 12%; Endurance: 5000h; Leakage Current: 75.2µA; Ripple Current: 1000mA; Technical Reference: ATEF125471M016DSPA9E000; Category: Aluminum Electrolytic Capacitors; Match Code: WCAP-ATLI; ComponentLink1Description: Website Link; ComponentLink1URL: https://www.we-online.com/redexpert/article/860080375014?ad; ComponentLink2Description: Datasheet Link; ComponentLink2URL: https://www.we-online.com/redexpert/spec/860080375014?ad; Mount: Through Hole; Operating Temperature Max: 105°C; Operating Temperature Min: -55°C; Packaging: Ammo Pack; Height: 12.5mm; Diameter: 10mm; Capacitance: 470µF; Rated Voltage (DC): 16V
footprint WCAP-ATLI_D10H12.5
simulation model 860080375014_470uF
pins: 1 P, 2 N
text: +

## 860080375017
designator C?, comment 680µF  (value not drawn)
WCAP-ATLI Aluminum Electrolytic Capacitor, Radial, THT, D10 x H16mm, 680µF, 16V; Manufacturer Part Number: 860080375017; Manufacturer: Wurth Elektronik; Capacitance Tolerance: +/-20%; Dissipation Factor: 12%; Endurance: 5000h; Leakage Current: 108.8µA; Ripple Current: 1280mA; Technical Reference: ATEF160681M016DSPAAE000; Category: Aluminum Electrolytic Capacitors; Match Code: WCAP-ATLI; ComponentLink1Description: Website Link; ComponentLink1URL: https://www.we-online.com/redexpert/article/860080375017?ad; ComponentLink2Description: Datasheet Link; ComponentLink2URL: https://www.we-online.com/redexpert/spec/860080375017?ad; Mount: Through Hole; Operating Temperature Max: 105°C; Operating Temperature Min: -55°C; Packaging: Ammo Pack; Height: 16mm; Diameter: 10mm; Capacitance: 680µF; Rated Voltage (DC): 16V
footprint WCAP-ATLI_D10H16
simulation model 860080375017_680uF
pins: 1 P, 2 N
text: +

## 860080375018
designator C?, comment 820µF  (value not drawn)
WCAP-ATLI Aluminum Electrolytic Capacitor, Radial, THT, D10 x H20mm, 820µF, 16V; Manufacturer Part Number: 860080375018; Manufacturer: Wurth Elektronik; Capacitance Tolerance: +/-20%; Dissipation Factor: 12%; Endurance: 5000h; Leakage Current: 131.2µA; Ripple Current: 1400mA; Technical Reference: ATEF200821M016DSPAAE000; Category: Aluminum Electrolytic Capacitors; Match Code: WCAP-ATLI; ComponentLink1Description: Website Link; ComponentLink1URL: https://www.we-online.com/redexpert/article/860080375018?ad; ComponentLink2Description: Datasheet Link; ComponentLink2URL: https://www.we-online.com/redexpert/spec/860080375018?ad; Mount: Through Hole; Operating Temperature Max: 105°C; Operating Temperature Min: -55°C; Packaging: Ammo Pack; Height: 20mm; Diameter: 10mm; Capacitance: 820µF; Rated Voltage (DC): 16V
footprint WCAP-ATLI_D10H20
simulation model 860080375018_820uF
pins: 1 P, 2 N
text: +

## 860080375019
designator C?, comment 1000µF  (value not drawn)
WCAP-ATLI Aluminum Electrolytic Capacitor, Radial, THT, D10 x H20mm, 1000µF, 16V; Manufacturer Part Number: 860080375019; Manufacturer: Wurth Elektronik; Capacitance Tolerance: +/-20%; Dissipation Factor: 12%; Endurance: 5000h; Leakage Current: 160µA; Ripple Current: 1840mA; Technical Reference: ATEF200102M016DSPAAE000; Category: Aluminum Electrolytic Capacitors; Match Code: WCAP-ATLI; ComponentLink1Description: Website Link; ComponentLink1URL: https://www.we-online.com/redexpert/article/860080375019?ad; ComponentLink2Description: Datasheet Link; ComponentLink2URL: https://www.we-online.com/redexpert/spec/860080375019?ad; Mount: Through Hole; Operating Temperature Max: 105°C; Operating Temperature Min: -55°C; Packaging: Ammo Pack; Height: 20mm; Diameter: 10mm; Capacitance: 1000µF; Rated Voltage (DC): 16V
footprint WCAP-ATLI_D10H20
simulation model 860080375019_1mF
pins: 1 P, 2 N
text: +

## 860080375020
designator C?, comment 1200µF  (value not drawn)
WCAP-ATLI Aluminum Electrolytic Capacitor, Radial, THT, D10 x H25mm, 1200µF, 16V; Manufacturer Part Number: 860080375020; Manufacturer: Wurth Elektronik; Capacitance Tolerance: +/-20%; Dissipation Factor: 12%; Endurance: 5000h; Leakage Current: 192µA; Ripple Current: 1920mA; Technical Reference: ATEF250122M016DSPAAE000; Category: Aluminum Electrolytic Capacitors; Match Code: WCAP-ATLI; ComponentLink1Description: Website Link; ComponentLink1URL: https://www.we-online.com/redexpert/article/860080375020?ad; ComponentLink2Description: Datasheet Link; ComponentLink2URL: https://www.we-online.com/redexpert/spec/860080375020?ad; Mount: Through Hole; Operating Temperature Max: 105°C; Operating Temperature Min: -55°C; Packaging: Ammo Pack; Height: 25mm; Diameter: 10mm; Capacitance: 1200µF; Rated Voltage (DC): 16V
footprint WCAP-ATLI_D10H25
simulation model 860080375020_1.2mF
pins: 1 P, 2 N
text: +

## 860080375021
designator C?, comment 1500µF  (value not drawn)
WCAP-ATLI Aluminum Electrolytic Capacitor, Radial, THT, D10 x H25mm, 1500µF, 16V; Manufacturer Part Number: 860080375021; Manufacturer: Wurth Elektronik; Capacitance Tolerance: +/-20%; Dissipation Factor: 12%; Endurance: 5000h; Leakage Current: 240µA; Ripple Current: 2050mA; Technical Reference: ATEF250152M016DSPAAE000; Category: Aluminum Electrolytic Capacitors; Match Code: WCAP-ATLI; ComponentLink1Description: Website Link; ComponentLink1URL: https://www.we-online.com/redexpert/article/860080375021?ad; ComponentLink2Description: Datasheet Link; ComponentLink2URL: https://www.we-online.com/redexpert/spec/860080375021?ad; Mount: Through Hole; Operating Temperature Max: 105°C; Operating Temperature Min: -55°C; Packaging: Ammo Pack; Height: 25mm; Diameter: 10mm; Capacitance: 1500µF; Rated Voltage (DC): 16V
footprint WCAP-ATLI_D10H25
simulation model 860080375021_1.5mF
pins: 1 P, 2 N
text: +

## 860080378022
designator C?, comment 1500µF  (value not drawn)
WCAP-ATLI Aluminum Electrolytic Capacitor, Radial, THT, D13 x H20mm, 1500µF, 16V; Manufacturer Part Number: 860080378022; Manufacturer: Wurth Elektronik; Capacitance Tolerance: +/-20%; Dissipation Factor: 12%; Endurance: 5000h; Leakage Current: 240µA; Ripple Current: 2200mA; Technical Reference: ATEI200152M016DSPACE000; Category: Aluminum Electrolytic Capacitors; Match Code: WCAP-ATLI; ComponentLink1Description: Website Link; ComponentLink1URL: https://www.we-online.com/redexpert/article/860080378022?ad; ComponentLink2Description: Datasheet Link; ComponentLink2URL: https://www.we-online.com/redexpert/spec/860080378022?ad; Mount: Through Hole; Operating Temperature Max: 105°C; Operating Temperature Min: -55°C; Packaging: Ammo Pack; Height: 20mm; Diameter: 13mm; Capacitance: 1500µF; Rated Voltage (DC): 16V
footprint WCAP-ATLI_D13H20
simulation model 860080378022_1.5mF
pins: 1 P, 2 N
text: +

## 860080378023
designator C?, comment 1800µF  (value not drawn)
WCAP-ATLI Aluminum Electrolytic Capacitor, Radial, THT, D13 x H20mm, 1800µF, 16V; Manufacturer Part Number: 860080378023; Manufacturer: Wurth Elektronik; Capacitance Tolerance: +/-20%; Dissipation Factor: 12%; Endurance: 5000h; Leakage Current: 288µA; Ripple Current: 2380mA; Technical Reference: ATEI200182M016DSPACE000; Category: Aluminum Electrolytic Capacitors; Match Code: WCAP-ATLI; ComponentLink1Description: Website Link; ComponentLink1URL: https://www.we-online.com/redexpert/article/860080378023?ad; ComponentLink2Description: Datasheet Link; ComponentLink2URL: https://www.we-online.com/redexpert/spec/860080378023?ad; Mount: Through Hole; Operating Temperature Max: 105°C; Operating Temperature Min: -55°C; Packaging: Ammo Pack; Height: 20mm; Diameter: 13mm; Capacitance: 1800µF; Rated Voltage (DC): 16V
footprint WCAP-ATLI_D13H20
simulation model 860080378023_1.8mF
pins: 1 P, 2 N
text: +

## 860080378024
designator C?, comment 2200µF  (value not drawn)
WCAP-ATLI Aluminum Electrolytic Capacitor, Radial, THT, D13 x H25mm, 2200µF, 16V; Manufacturer Part Number: 860080378024; Manufacturer: Wurth Elektronik; Capacitance Tolerance: +/-20%; Dissipation Factor: 12%; Endurance: 5000h; Leakage Current: 352µA; Ripple Current: 2750mA; Technical Reference: ATEI250222M016DSPACE000; Category: Aluminum Electrolytic Capacitors; Match Code: WCAP-ATLI; ComponentLink1Description: Website Link; ComponentLink1URL: https://www.we-online.com/redexpert/article/860080378024?ad; ComponentLink2Description: Datasheet Link; ComponentLink2URL: https://www.we-online.com/redexpert/spec/860080378024?ad; Mount: Through Hole; Operating Temperature Max: 105°C; Operating Temperature Min: -55°C; Packaging: Ammo Pack; Height: 25mm; Diameter: 13mm; Capacitance: 2200µF; Rated Voltage (DC): 16V
footprint WCAP-ATLI_D13H25
simulation model 860080378024_2.2mF
pins: 1 P, 2 N
text: +

## 860080378025
designator C?, comment 2700µF  (value not drawn)
WCAP-ATLI Aluminum Electrolytic Capacitor, Radial, THT, D13 x H25mm, 2700µF, 16V; Manufacturer Part Number: 860080378025; Manufacturer: Wurth Elektronik; Capacitance Tolerance: +/-20%; Dissipation Factor: 12%; Endurance: 5000h; Leakage Current: 432µA; Ripple Current: 3000mA; Technical Reference: ATEI250272M016DSPACE000; Category: Aluminum Electrolytic Capacitors; Match Code: WCAP-ATLI; ComponentLink1Description: Website Link; ComponentLink1URL: https://www.we-online.com/redexpert/article/860080378025?ad; ComponentLink2Description: Datasheet Link; ComponentLink2URL: https://www.we-online.com/redexpert/spec/860080378025?ad; Mount: Through Hole; Operating Temperature Max: 105°C; Operating Temperature Min: -55°C; Packaging: Ammo Pack; Height: 25mm; Diameter: 13mm; Capacitance: 2700µF; Rated Voltage (DC): 16V
footprint WCAP-ATLI_D13H25
simulation model 860080378025_2.7mF
pins: 1 P, 2 N
text: +